# EAGLE library part LTC1257 (library ltc1257)
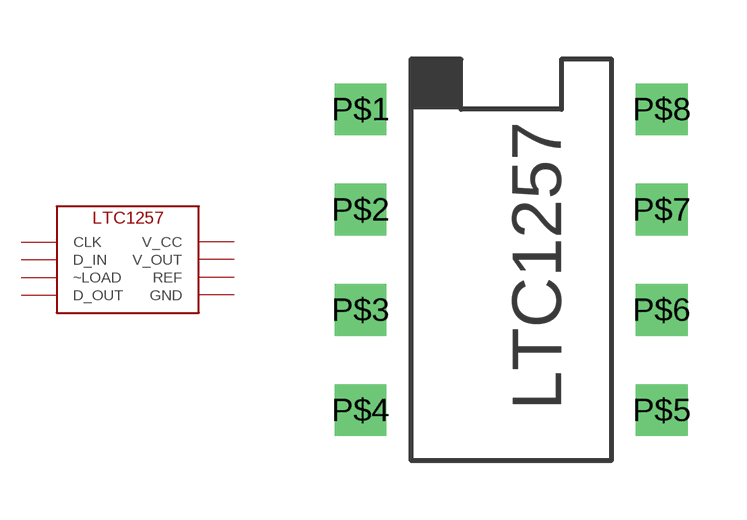
[diagram p0: symbol with the pads of DIL-8; footprint DIL-8]

Designator prefix -

## LTC1257  [DIL-8]
P$1  CLK  in
P$2  D_IN  in
P$3  ~LOAD  in
P$4  D_OUT  out
P$5  GND  pwr
P$6  REF  pwr
P$7  V_OUT  out
P$8  V_CC  pwr

## Footprint DIL-8 (pad centres in mm)
drill 0.8 square: P$1 -5.08,2.54; P$2 -5.08,0; P$3 -5.08,-2.54; P$4 -5.08,-5.08; P$5 2.54,-5.08; P$6 2.54,-2.54; P$7 2.54,0; P$8 2.54,2.54